# Altium footprint library powerPCB.PcbLib: 2 footprints
Each footprint in its own frame and in the unit in brackets; x right, y up, seen from the top. Pads: shape width x height; smd on the part's side, far side on the other; paste and mask are expansions set on the pad; w line width, h text height; cw(c..) or ccw(c..) is an arc to the next point about the centre after c.
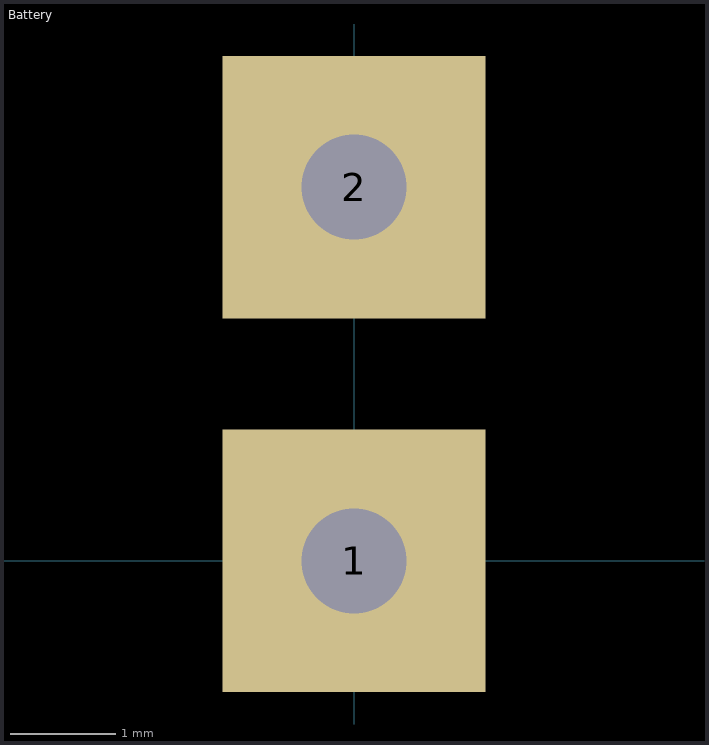
[diagram p0: the footprints below, top view; thin cyan lines are the x and y axes]

## Battery [mm] "Battery 103450"
pads (2):
  rect 2.5x2.5 hole 1: 1(0,0) 2(0,3.556)

## PCBComponent_1 [mm]